# EAGLE library part BLUEGIGA_WT11 (library m-pad-2.1)
BlueGiga's WT11 Bluetooth Module (2.0+EDR) Description: BlueCore4 is a single chip Bluetooth solution which implements the Bluetooth radio transceiver and also an on chip microcontroller. BlueCore4 implements Bluetooth® 2.0+EDR (Enhanced Data Rate) and it can deliver data rates up to 3 Mbps. The microcontroller (MCU) on BlueCore04 acts as interrupt controller and event timer run the Bluetooth software stack and control the radio and host interfaces. A 16-bit reduced instruction set computer (RISC) microcontroller is used for low power consumption and efficient use of memory. BlueCore04 has 48Kbytes of on-chip RAM is provided to support the RISC MCU and is shared between the ring buffers used to hold voice/data for each active connection and the general purpose memory required by the Bluetooth stack. Featrures: Fully Qualified Bluetooth system v2.0 + EDR, CE and FCC Class 1, range up to 300 meters Integrated chip antenna or UFL connector Industrial temperature range from -40oC to +85oC Enhanced Data Rate (EDR) compliant with v2.0.E.2 of specification for both 2Mbps and 3Mbps modulation modes RoHS Compliant Full Speed Bluetooth Operation with Full Piconet Scatternet Support USB version 2.0 compatible UART with bypass mode Support for 802.11 Coexistence 8Mbits of Flash Memory Applications: Hand held terminals Industrial devices Point-of-Sale systems PCs Personal Digital Assistants (PDAs) Computer Accessories Access Points Please send any comments to: messi@users.sourceforge.net
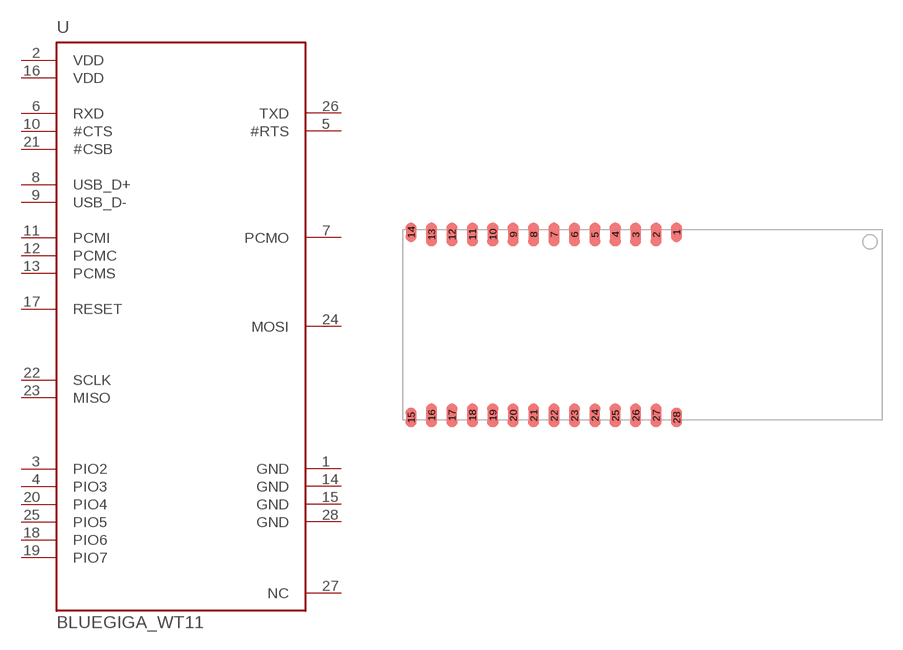
[diagram p150: symbol with the pads of WT11; footprint WT11]

Designator prefix U

## BLUEGIGA_WT11  [WT11]
1  GND  pwr
2  VDD  pwr
3  PIO2
4  PIO3
5  #RTS  out
6  RXD  in
7  PCMO  out
8  USB_D+  sup
9  USB_D-  sup
10  #CTS  in
11  PCMI  in
12  PCMC
13  PCMS
14  GND  pwr
15  GND  pwr
16  VDD  pwr
17  RESET  in
18  PIO6
19  PIO7
20  PIO4
21  #CSB  in
22  SCLK
23  MISO  in
24  MOSI  out
25  PIO5
26  TXD  out
27  NC  nc
28  GND  pwr

## Footprint WT11 (pad centres in mm)
Footprint for the WT11 Bluetooth module from BlueGiga
smd 0.8 x 1.4: 1 2.3,6.8; 14 -17.2,6.8; 15 -17.2,-6.8; 28 2.3,-6.8
smd 0.8 x 1.7: 2 0.8,6.65; 3 -0.7,6.65; 4 -2.2,6.65; 5 -3.7,6.65; 6 -5.2,6.65; 7 -6.7,6.65; 8 -8.2,6.65; 9 -9.7,6.65; 10 -11.2,6.65; 11 -12.7,6.65; 12 -14.2,6.65; 13 -15.7,6.65; 16 -15.7,-6.65; 17 -14.2,-6.65; 18 -12.7,-6.65; 19 -11.2,-6.65; 20 -9.7,-6.65; 21 -8.2,-6.65; 22 -6.7,-6.65; 23 -5.2,-6.65; 24 -3.7,-6.65; 25 -2.2,-6.65; 26 -0.7,-6.65; 27 0.8,-6.65